# Altium footprint library components.PcbLib: 16 footprints
Each footprint in its own frame and in the unit in brackets; x right, y up, seen from the top. Pads: shape width x height; smd on the part's side, far side on the other; paste and mask are expansions set on the pad; w line width, h text height; cw(c..) or ccw(c..) is an arc to the next point about the centre after c.
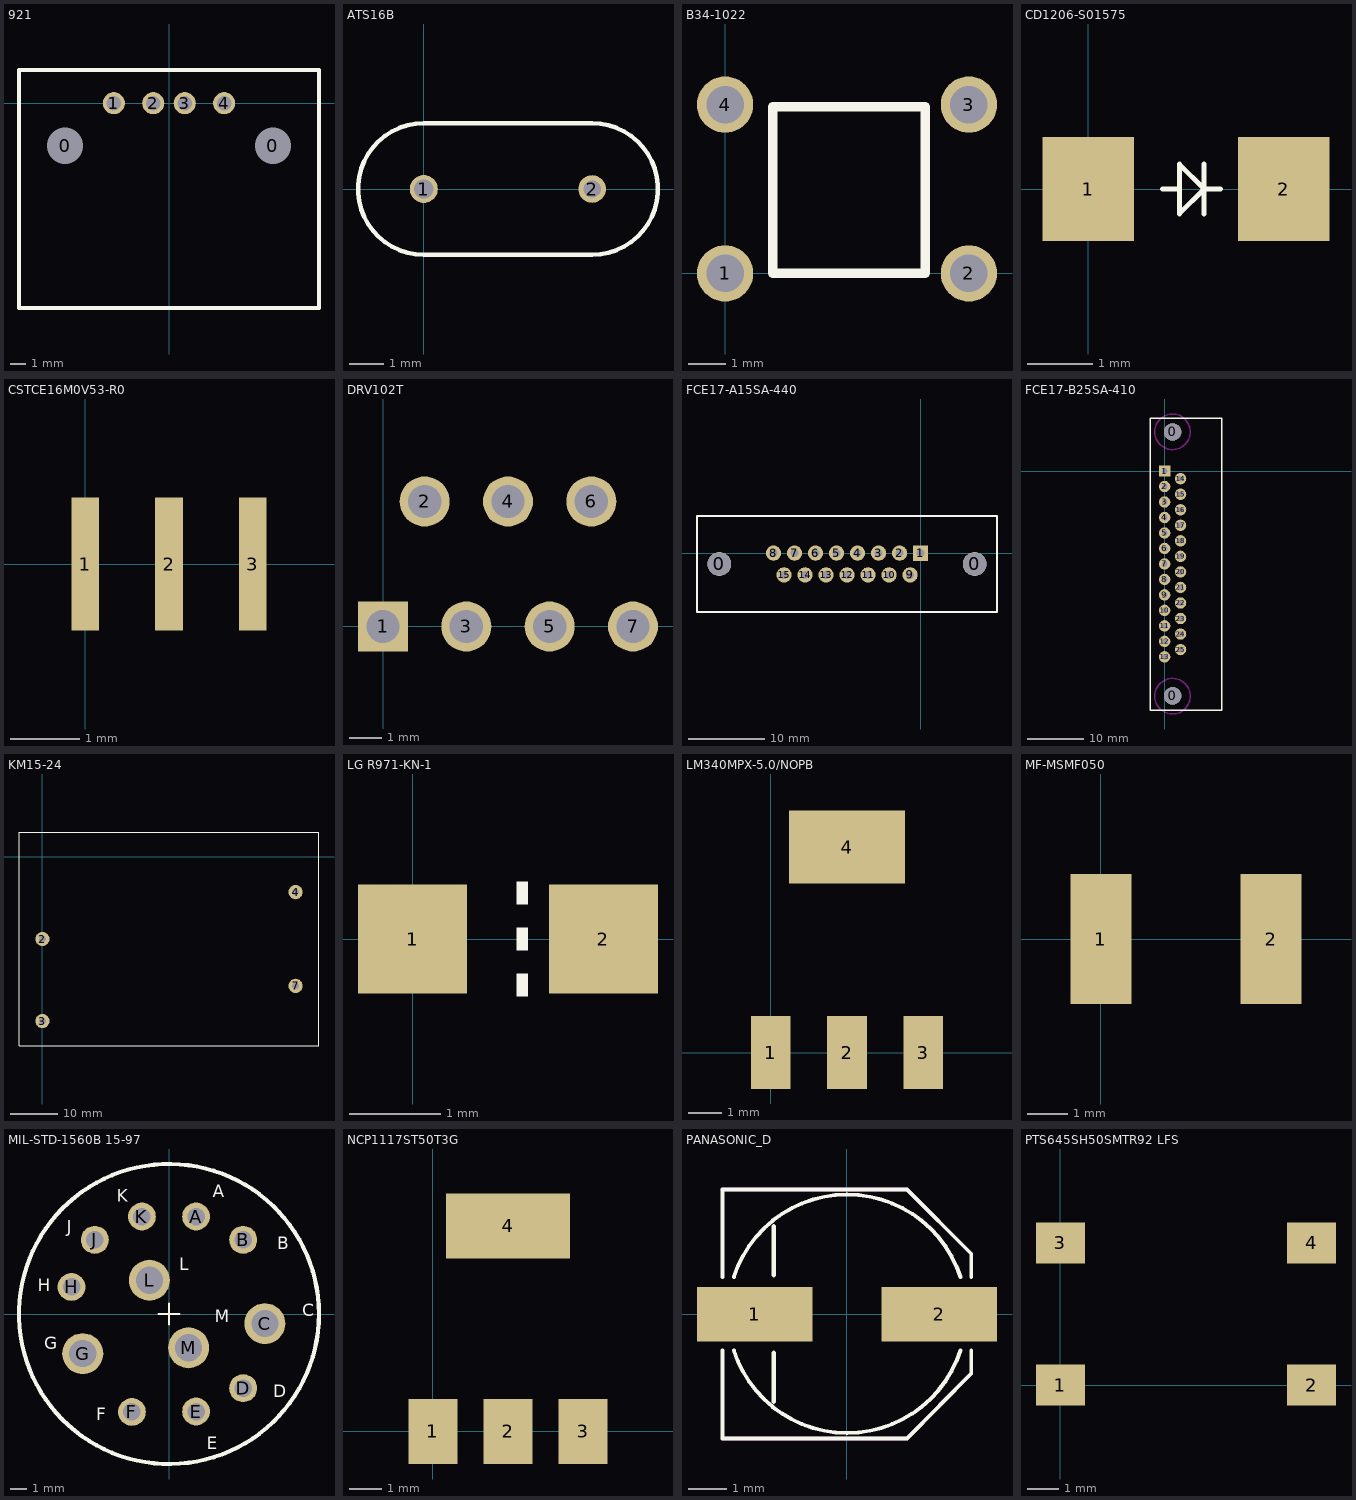
[diagram p0: the footprints below, top view; thin cyan lines are the x and y axes]

## 921 [mm] "USB A Socket"
pads (6):
  round 1.5 hole 2.3 unplated: 0(-6.6,-2.7) 0(6.6,-2.7)
  round 1.4 hole 0.92: 1(-3.5,0) 2(-1,0) 3(1,0) 4(3.5,0)
Top Overlay:
  lines w0.254: -9.525,-13 9.525,-13 9.525,2.1 -9.525,2.1 -9.525,-13

## ATS16B [mil]
height 145
pads (2):
  round 32 hole 22: 1(0,0)
  round 31.5 hole 19.68: 2(192,0)
Top Overlay:
  lines w5: 0,-75 cw(c0,0) 0,75 192,75 cw(c192,0) 192,-75 0,-75

## B34-1022 [mm] "SPST-NO Tiny Switch"
pads (4):
  round 1.5 hole 1: 1(0,0) 2(6.5,0) 3(6.5,4.5) 4(0,4.5)
Top Overlay:
  lines w0.254: 1.27,0 5.334,0 5.334,4.445 1.27,4.445 1.27,0

## CD1206-S01575 [mm] "Diode"
height 3
pads (2):
  rect 1.4x1.6 smd: 1(0,0) 2(3,0)
Top Overlay:
  lines w0.076: 1.143,0 1.397,0 ; 1.778,-0.381 1.778,0.381 ; 2.032,0 1.778,0 ; 1.778,0 1.397,-0.381 1.397,0.381 1.778,0

## CSTCE16M0V53-R0 [mm] "CER RESONATOR 16.0MHZ SMD"
height 0.9
pads (3):
  rect 0.4x1.9 smd: 1(0,0) 2(1.2,0) 3(2.4,0)
3D body: height 1, standoff 0, extent -0.457,-0.665 2.743,0.635

## DRV102T [mil]
pads (7):
  rect 60x60 hole 40: 1(0,0)
  round 60 hole 40: 2(50,150) 3(100,0) 4(150,150) 5(200,0) 6(250,150) 7(300,0)

## FCE17-A15SA-440 [mm] "DB15, Sockets, PCB Mount"
pads (17):
  round 3.1 hole 3.05 unplated: 0(-26.26,-1.42) 0(7.06,-1.42)
  rect 2x2 hole 1.02: 1(0,0)
  round 2 hole 1.02: 2(-2.74,0) 3(-5.48,0) 4(-8.22,0) 5(-10.96,0) 6(-13.7,0) 7(-16.44,0) 8(-19.18,0) 9(-1.37,-2.84) 10(-4.11,-2.84) 11(-6.85,-2.84) 12(-9.59,-2.84) 13(-12.33,-2.84) 14(-15.07,-2.84) 15(-17.81,-2.84)
Top Overlay:
  lines w0.254: -29.17,-7.695 -29.17,4.855 9.97,4.855 9.97,-7.695 -29.17,-7.695

## FCE17-B25SA-410 [mil] "DB25, Sockets, PCB Mount"
pads (27):
  round 122 hole 122 unplated: 0(56,-1578) 0(56,274)
  rect 80x80 hole 40: 1(0,0)
  round 80 hole 40: 2(0,-108.67) 3(0,-217.33) 4(0,-326) 5(0,-434.67) 6(0,-543.33) 7(0,-652) 8(0,-760.67) 9(0,-869.33) 10(0,-978) 11(0,-1086.67) 12(0,-1195.33) 13(0,-1304) 14(112,-54) 15(112,-163) 16(112,-272) 17(112,-381) 18(112,-490) 19(112,-599) 20(112,-708) 21(112,-817) 22(112,-926) 23(112,-1035) 24(112,-1144) 25(112,-1253)
Top Overlay:
  lines w10: -100,-1680 -100,370 400,370 400,-1680 -100,-1680
Keep-Out Layer:
  circle w10: c55,275 r125
  circle w10: c55,-1580 r125

## KM15-24 [mm]
height 23.5
pads (4):
  round 3.048 hole 1.5: 2(0,-17.5) 3(0,-35) 4(54,-7.5) 7(54,-27.5)
Top Overlay:
  lines w0.254: -5,-40.3 -5,5.3 59,5.3 59,-40.3 -5,-40.3

## LG R971-KN-1 [mm] "LED Green, 0805"
height 0.9
pads (2):
  rect 1.2x1.2 smd: 1(0,0) 2(2.1,0)
Top Overlay:
  rectangle: 1.143,-0.127 1.27,0.127
  rectangle: 1.143,-0.635 1.27,-0.381
  rectangle: 1.143,0.381 1.27,0.635

## LM340MPX-5.0/NOPB [mm] "JEDEC TO-261 Variation AA"
pads (4):
  rect 1.2x2.2 smd: 1(0,0) 2(2.3,0) 3(4.6,0)
  rect 3.5x2.2 smd: 4(2.3,6.2)
3D body: height 1.64, standoff -0.01, extent -0.964,-0.071 5.536,6.929

## MF-MSMF050 [mm] "500 mA Fuse"
pads (2):
  rect 1.5x3.2 smd: 1(0,0) 2(4.2,0)

## MIL-STD-1560B 15-97 [mil] "Insert arrangement for MIL-STD-1560B 15-97"
pads (12):
  round 66.93 hole 42: A(65,234) B(178,178) D(178,-178) E(65,-234) F(-89,-235) H(-234,65) J(-178,178) K(-65,234)
  round 98.43 hole 65: C(230,-23) G(-207,-95) L(-47,81) M(47,-81)
Top Overlay:
  circle w10: c0,0 r360
  lines w5: -25,0 25,0 ; 0,-25 0,25
  text "D" at 250,-200 h30
  text "E" at 90,-325 h30
  text "F" at -175,-255 h30
  text "C" at 320,-5 h30
  text "M" at 110,-20 h30
  text "G" at -300,-85 h30
  text "L" at 25,105 h30
  text "H" at -315,55 h30
  text "B" at 260,155 h30
  text "A" at 105,280 h30
  text "K" at -125,270 h30
  text "J" at -245,195 h30

## NCP1117ST50T3G [mm] "JEDEC TO-261 Variation AA"
pads (4):
  rect 1.5x2 smd: 1(0,0) 2(2.3,0) 3(4.6,0)
  rect 3.8x2 smd: 4(2.3,6.3)
3D body: height 1.64, standoff -0.01, extent -0.964,-0.071 5.536,6.929

## PANASONIC_D [mil] "PANASONIC_D"
pads (2):
  rect 119x56 smd: 1(-94.49,0) 2(95,0)
Top Overlay:
  lines w4: -127.95,-37.4 -127.95,-127.95 62,-127.95 128,-61.02 128,-37.4 ; -127.95,38 -127.95,128 62,128 128,62 128,38 ; -116.14,-37.4 ccw(c0.43,0.14) 117,-37.4 ; -116.14,38 cw(c0.43,0.46) 117,38
  lines w5: -75,-90 -75,-40 ; -75,40 -75,90
Mechanical 16:
  rectangle: -143.7,-13.78 -120.08,14
  rectangle: 121,-13.78 144,14
  lines w4: -127.95,-127.95 62,-127.95 128,-61.02 ; -127.95,128 62,128 128,62

## PTS645SH50SMTR92 LFS [mm] "SWITCH TACTILE SPST-NO 0.05A 12V"
height 1.9
pads (4):
  rect 1.55x1.3 smd: 1(0,0) 2(7.95,0) 3(0,4.5) 4(7.95,4.5)
3D body: height 4.1, standoff 0, extent -0.563,-0.762 8.437,5.238